# Altium footprint library WR-NPC2.PcbLib: 28 footprints (part 1 of 2)
Each footprint in its own frame and in the unit in brackets; x right, y up, seen from the top. Pads: shape width x height; smd on the part's side, far side on the other; paste and mask are expansions set on the pad; w line width, h text height; cw(c..) or ccw(c..) is an arc to the next point about the centre after c.
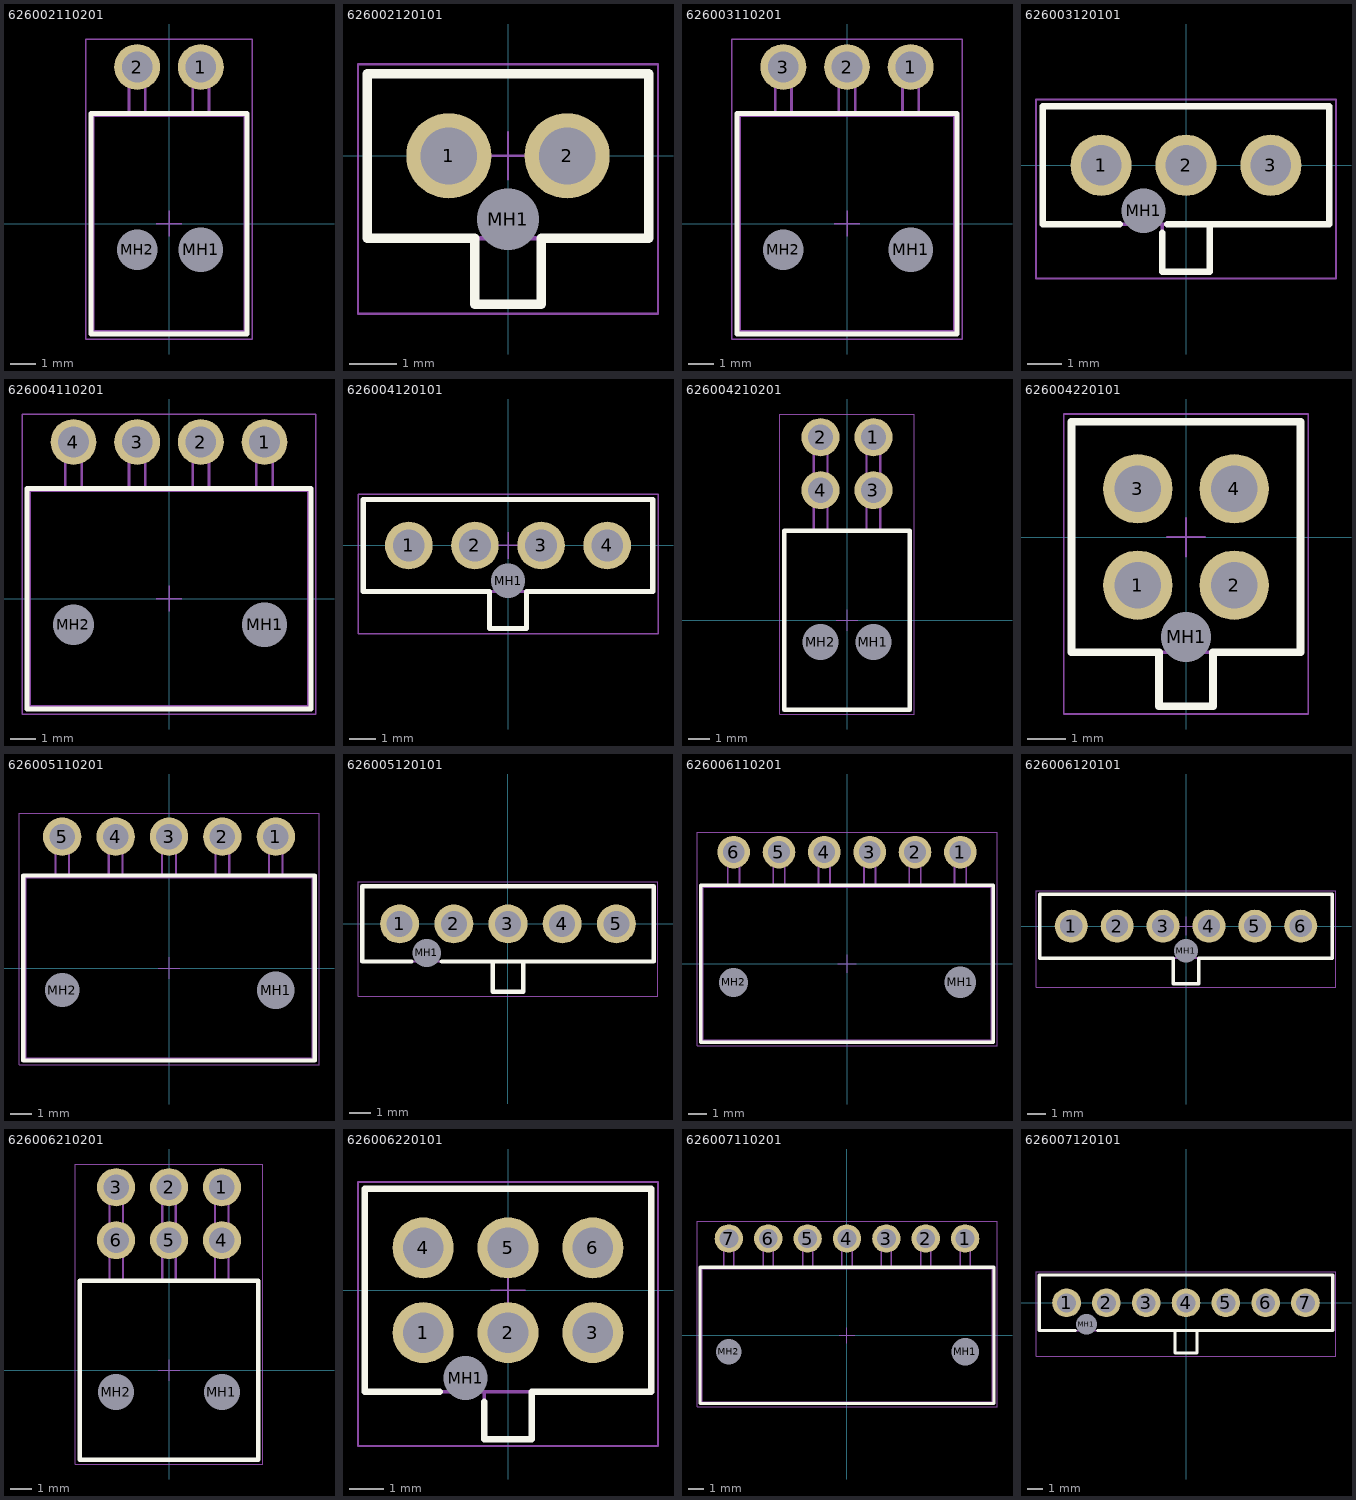
[diagram p0: the footprints below, top view; thin cyan lines are the x and y axes]

## 626002110201 [mm] "Single Row Male Header Right Angled, GW, THT, 02p"
height 3.78
pads (4):
  round 1.8 hole 1.2: 1(1.25,6.15) 2(-1.25,6.15)
  round 1.55 hole 1.75 unplated: MH1(1.25,-1.03)
  round 1.4 hole 1.6 unplated: MH2(-1.25,-1.03)
Top Overlay:
  lines w0.2: -3.07,-4.33 3.07,-4.33 3.07,4.33 -3.07,4.33 -3.07,-4.33
Top Component Outline:
  lines w0.1: -1.57,4.23 -1.57,6.47 -0.93,6.47 -0.93,4.23 ; 0.93,4.23 0.93,6.47 1.57,6.47 1.57,4.23 ; -2.97,-4.23 2.97,-4.23 2.97,4.23 -2.97,4.23 -2.97,-4.23
Top Courtyard:
  lines w0.05: -3.27,-4.53 -3.27,7.25 3.27,7.25 3.27,-4.53 -3.27,-4.53
Top Component Center:
  lines w0.05: -0.5,0 0.5,0 ; 0,-0.5 0,0.5
Top Designator (Mech19):
  text ".Designator" at -7.498,-0.5 h1.5
3D body "626002110201.stp": height 5.24, standoff -3.14, extent -2.94,-4.23 3,6.47

## 626002120101 [mm] "Single Row Male Header Vertical, GW, THT, 02p"
height 9.06
pads (3):
  round 1.8 hole 1.2: 1(-1.25,0) 2(1.25,0)
  round 1.1 hole 1.3 unplated: MH1(0,-1.34)
Top Overlay:
  lines w0.2: -2.97,-1.74 -2.97,1.74 2.97,1.74 2.97,-1.74 0.7,-1.74 0.7,-3.14 -0.7,-3.14 -0.7,-1.74 -2.97,-1.74
Top Component Outline:
  lines w0.1: -0.7,-1.74 -0.7,-3.14 0.7,-3.14 0.7,-1.74 ; -2.97,-1.74 -2.97,1.74 2.97,1.74 2.97,-1.74 -2.97,-1.74
Top Courtyard:
  lines w0.05: -3.17,-3.34 3.17,-3.34 3.17,1.94 -3.17,1.94 -3.17,-3.34
Top Component Center:
  lines w0.05: -0.5,0 0.5,0 ; 0,-0.5 0,0.5
Top Designator (Mech19):
  text ".Designator" at -7.498,-0.5 h1.5
3D body "626002120101.stp": height 9.1, standoff -3.16, extent -2.97,-3.14 2.97,1.74

## 626003110201 [mm] "Single Row Male Header Right Angled, GW, THT, 03p"
height 3.78
pads (5):
  round 1.8 hole 1.2: 1(2.5,6.15) 2(0,6.15) 3(-2.5,6.15)
  round 1.55 hole 1.75 unplated: MH1(2.5,-1.03)
  round 1.4 hole 1.6 unplated: MH2(-2.5,-1.03)
Top Overlay:
  lines w0.2: -4.32,-4.33 -4.32,4.33 4.32,4.33 4.32,-4.33 -4.32,-4.33
Top Component Outline:
  lines w0.1: -2.82,4.23 -2.82,6.47 -2.18,6.47 -2.18,4.23 ; -0.32,4.23 -0.32,6.47 0.32,6.47 0.32,4.23 ; 2.18,4.23 2.18,6.47 2.82,6.47 2.82,4.23 ; -4.22,-4.23 -4.22,4.23 4.22,4.23 4.22,-4.23 -4.22,-4.23
Top Courtyard:
  lines w0.05: -4.52,-4.53 4.52,-4.53 4.52,7.25 -4.52,7.25 -4.52,-4.53
Top Component Center:
  lines w0.05: -0.5,0 0.5,0 ; 0,-0.5 0,0.5
Top Designator (Mech19):
  text ".Designator" at -7.498,-0.5 h1.5
3D body "626003110201.stp": height 5.24, standoff -3.14, extent -4.22,-4.23 4.22,6.47

## 626003120101 [mm] "Single Row Male Header Vertical, GW, THT, 03p"
height 9.06
pads (4):
  round 1.8 hole 1.2: 1(-2.5,0) 2(0,0) 3(2.5,0)
  round 1.1 hole 1.3 unplated: MH1(-1.25,-1.34)
Top Overlay:
  lines w0.2: -1.95,-1.74 -4.22,-1.74 -4.22,1.74 4.22,1.74 4.22,-1.74 -0.55,-1.74 ; -0.7,-2 -0.7,-3.14 0.7,-3.14 0.7,-1.74
Top Component Outline:
  lines w0.1: -0.7,-1.74 -0.7,-3.14 0.7,-3.14 0.7,-1.74 ; -4.22,-1.74 4.22,-1.74 4.22,1.74 -4.22,1.74 -4.22,-1.74
Top Courtyard:
  lines w0.05: -4.42,-3.34 -4.42,1.94 4.42,1.94 4.42,-3.34 -4.42,-3.34
Top Component Center:
  lines w0.05: -0.5,0 0.5,0 ; 0,-0.5 0,0.5
Top Designator (Mech19):
  text ".Designator" at -7.498,-0.5 h1.5
3D body "626003120101.stp": height 9.1, standoff -3.16, extent -4.22,-3.14 4.22,1.74

## 626004110201 [mm] "Single Row Male Header Right Angled, GW, THT, 04p"
height 3.78
pads (6):
  round 1.8 hole 1.2: 1(3.75,6.15) 2(1.25,6.15) 3(-1.25,6.15) 4(-3.75,6.15)
  round 1.55 hole 1.75 unplated: MH1(3.75,-1.03)
  round 1.4 hole 1.6 unplated: MH2(-3.75,-1.03)
Top Overlay:
  lines w0.2: -5.57,-4.33 -5.57,4.33 5.57,4.33 5.57,-4.33 -5.57,-4.33
Top Component Outline:
  lines w0.1: -4.07,4.23 -4.07,6.47 -3.43,6.47 -3.43,4.23 ; -1.57,4.23 -1.57,6.47 -0.93,6.47 -0.93,4.23 ; 0.93,4.23 0.93,6.47 1.57,6.47 1.57,4.23 ; 3.43,4.23 3.43,6.47 4.07,6.47 4.07,4.23 ; -5.47,-4.23 5.47,-4.23 5.47,4.23 -5.47,4.23 -5.47,-4.23
Top Courtyard:
  lines w0.05: -5.77,-4.53 5.77,-4.53 5.77,7.25 -5.77,7.25 -5.77,-4.53
Top Component Center:
  lines w0.05: -0.5,0 0.5,0 ; 0,-0.5 0,0.5
Top Designator (Mech19):
  text ".Designator" at -7.498,-0.5 h1.5
3D body "626004110201.stp": height 5.24, standoff -3.14, extent -5.47,-4.23 5.47,6.47

## 626004120101 [mm] "Single Row Male Header Vertical, GW, THT, 04p"
height 9.06
pads (5):
  round 1.8 hole 1.2: 1(-3.75,0) 2(-1.25,0) 3(1.25,0) 4(3.75,0)
  round 1.1 hole 1.3 unplated: MH1(0,-1.34)
Top Overlay:
  lines w0.2: -5.47,-1.74 -5.47,1.74 5.47,1.74 5.47,-1.74 0.7,-1.74 0.7,-3.14 -0.7,-3.14 -0.7,-1.74 -5.47,-1.74
Top Component Outline:
  lines w0.1: -0.7,-1.74 -0.7,-3.14 0.7,-3.14 0.7,-1.74 ; -5.47,-1.74 5.47,-1.74 5.47,1.74 -5.47,1.74 -5.47,-1.74
Top Courtyard:
  lines w0.05: -5.67,-3.34 -5.67,1.94 5.67,1.94 5.67,-3.34 -5.67,-3.34
Top Component Center:
  lines w0.05: -0.5,0 0.5,0 ; 0,-0.5 0,0.5
Top Designator (Mech19):
  text ".Designator" at -7.498,-0.5 h1.5
3D body "626004120101.stp": height 9.1, standoff -3.16, extent -5.47,-3.14 5.47,1.74

## 626004210201 [mm] "Dual Row Male Header Right Angled, GW, THT, 04p"
height 6.28
pads (6):
  round 1.8 hole 1.2: 1(1.25,8.65) 2(-1.25,8.65) 3(1.25,6.15) 4(-1.25,6.15)
  round 1.5 hole 1.7 unplated: MH1(1.25,-1.03) MH2(-1.25,-1.03)
Top Overlay:
  lines w0.2: -2.97,-4.23 -2.97,4.23 2.97,4.23 2.97,-4.23 -2.97,-4.23
Top Component Outline:
  lines w0.1: -1.57,4.23 -1.57,8.97 -0.93,8.97 -0.93,4.23 ; -1.57,6.47 -0.93,6.47 ; 0.93,4.23 0.93,8.97 1.57,8.97 1.57,4.23 ; 0.93,6.47 1.57,6.47 ; -2.97,-4.23 2.97,-4.23 2.97,4.23 -2.97,4.23 -2.97,-4.23
Top Courtyard:
  lines w0.05: -3.17,-4.43 3.17,-4.43 3.17,9.75 -3.17,9.75 -3.17,-4.43
Top Component Center:
  lines w0.05: -0.5,0 0.5,0 ; 0,-0.5 0,0.5
Top Designator (Mech19):
  text ".Designator" at -7.498,-0.5 h1.5
3D body "626004210201.stp": height 7.79, standoff -3.09, extent -2.97,-4.23 2.97,8.97

## 626004220101 [mm] "Dual Row Male Header Vertical, GW, THT, 04p"
height 9.06
pads (5):
  round 1.8 hole 1.2: 1(-1.25,-1.25) 2(1.25,-1.25) 3(-1.25,1.25) 4(1.25,1.25)
  round 1.1 hole 1.3 unplated: MH1(0,-2.59)
Top Overlay:
  lines w0.2: -2.97,-2.99 -0.7,-2.99 -0.7,-4.39 0.7,-4.39 0.7,-2.99 2.97,-2.99 2.97,2.99 -2.97,2.99 -2.97,-2.99
Top Component Outline:
  lines w0.1: -0.7,-2.99 -0.7,-4.39 0.7,-4.39 0.7,-2.99 ; -2.97,-2.99 2.97,-2.99 2.97,2.99 -2.97,2.99 -2.97,-2.99
Top Courtyard:
  lines w0.05: -3.17,-4.59 -3.17,3.19 3.17,3.19 3.17,-4.59 -3.17,-4.59
Top Component Center:
  lines w0.05: -0.5,0 0.5,0 ; 0,-0.5 0,0.5
Top Designator (Mech19):
  text ".Designator" at -7.498,-0.5 h1.5
3D body "626004220101.stp": height 9.11, standoff -3.15, extent -2.97,-4.39 2.97,2.99

## 626005110201 [mm] "Single Row Male Header Right Angled, GW, THT, 05p"
height 3.78
pads (7):
  round 1.8 hole 1.2: 1(5,6.15) 2(2.5,6.15) 3(0,6.15) 4(-2.5,6.15) 5(-5,6.15)
  round 1.55 hole 1.75 unplated: MH1(5,-1.03)
  round 1.4 hole 1.6 unplated: MH2(-5,-1.03)
Top Overlay:
  lines w0.2: -6.82,-4.33 6.82,-4.33 6.82,4.33 -6.82,4.33 -6.82,-4.33
Top Component Outline:
  lines w0.1: -5.32,4.23 -5.32,6.47 -4.68,6.47 -4.68,4.23 ; -2.82,4.23 -2.82,6.47 -2.18,6.47 -2.18,4.23 ; -0.32,4.23 -0.32,6.47 0.32,6.47 0.32,4.23 ; 2.18,4.23 2.18,6.47 2.82,6.47 2.82,4.23 ; 4.68,4.23 4.68,6.47 5.32,6.47 5.32,4.23 ; -6.72,-4.23 -6.72,4.23 6.72,4.23 6.72,-4.23 -6.72,-4.23
Top Courtyard:
  lines w0.05: -7.02,-4.53 -7.02,7.25 7.02,7.25 7.02,-4.53 -7.02,-4.53
Top Component Center:
  lines w0.05: -0.5,0 0.5,0 ; 0,-0.5 0,0.5
Top Designator (Mech19):
  text ".Designator" at -7.498,-0.5 h1.5
3D body "626005110201.stp": height 5.24, standoff -3.14, extent -6.72,-4.23 6.72,6.47

## 626005120101 [mm] "Single Row Male Header Vertical, GW, THT, 05p"
height 9.06
pads (6):
  round 1.8 hole 1.2: 1(-5,0) 2(-2.5,0) 3(0,0) 4(2.5,0) 5(5,0)
  round 1.1 hole 1.3 unplated: MH1(-3.75,-1.34)
Top Overlay:
  lines w0.2: -4.45,-1.74 -6.72,-1.74 -6.72,1.74 6.72,1.74 6.72,-1.74 -3.05,-1.74 ; -0.7,-1.74 -0.7,-3.14 0.7,-3.14 0.7,-1.74
Top Component Outline:
  lines w0.1: -0.7,-1.74 -0.7,-3.14 0.7,-3.14 0.7,-1.74 ; -6.72,-1.74 6.72,-1.74 6.72,1.74 -6.72,1.74 -6.72,-1.74
Top Courtyard:
  lines w0.05: -6.92,-3.34 -6.92,1.94 6.92,1.94 6.92,-3.34 -6.92,-3.34
Top Component Center:
  lines w0.05: -0.5,0 0.5,0 ; 0,-0.5 0,0.5
Top Designator (Mech19):
  text ".Designator" at -7.498,-0.5 h1.5
3D body "626005120101.stp": height 9.1, standoff -3.16, extent -6.72,-3.14 6.72,1.74

## 626006110201 [mm] "Single Row Male Header Right Angled, GW, THT, 06p"
height 3.78
pads (8):
  round 1.8 hole 1.2: 1(6.25,6.15) 2(3.75,6.15) 3(1.25,6.15) 4(-1.25,6.15) 5(-3.75,6.15) 6(-6.25,6.15)
  round 1.55 hole 1.75 unplated: MH1(6.25,-1.03)
  round 1.4 hole 1.6 unplated: MH2(-6.25,-1.03)
Top Overlay:
  lines w0.2: -8.07,-4.33 -8.07,4.33 8.07,4.33 8.07,-4.33 -8.07,-4.33
Top Component Outline:
  lines w0.1: -6.57,4.23 -6.57,6.47 -5.93,6.47 -5.93,4.23 ; -4.07,4.23 -4.07,6.47 -3.43,6.47 -3.43,4.23 ; -1.57,4.23 -1.57,6.47 -0.93,6.47 -0.93,4.23 ; 0.93,4.23 0.93,6.47 1.57,6.47 1.57,4.23 ; 3.43,4.23 3.43,6.47 4.07,6.47 4.07,4.23 ; 5.93,4.23 5.93,6.47 6.57,6.47 6.57,4.23 ; -7.97,-4.23 7.97,-4.23 7.97,4.23 -7.97,4.23 -7.97,-4.23
Top Courtyard:
  lines w0.05: -8.27,-4.53 8.27,-4.53 8.27,7.25 -8.27,7.25 -8.27,-4.53
Top Component Center:
  lines w0.05: -0.5,0 0.5,0 ; 0,-0.5 0,0.5
Top Designator (Mech19):
  text ".Designator" at -7.498,-0.5 h1.5
3D body "626006110201.stp": height 5.24, standoff -3.14, extent -7.97,-4.23 7.97,6.47

## 626006120101 [mm] "Single Row Male Header Vertical, GW, THT, 06p"
height 9.06
pads (7):
  round 1.8 hole 1.2: 1(-6.25,0) 2(-3.75,0) 3(-1.25,0) 4(1.25,0) 5(3.75,0) 6(6.25,0)
  round 1.1 hole 1.3 unplated: MH1(0,-1.34)
Top Overlay:
  lines w0.2: -7.97,-1.74 -7.97,1.74 7.97,1.74 7.97,-1.74 0.7,-1.74 0.7,-3.14 -0.7,-3.14 -0.7,-1.74 -7.97,-1.74
Top Component Outline:
  lines w0.1: -0.7,-1.74 -0.7,-3.14 0.7,-3.14 0.7,-1.74 ; -7.97,-1.74 -7.97,1.74 7.97,1.74 7.97,-1.74 -7.97,-1.74
Top Courtyard:
  lines w0.05: -8.17,-3.34 8.17,-3.34 8.17,1.94 -8.17,1.94 -8.17,-3.34
Top Component Center:
  lines w0.05: -0.5,0 0.5,0 ; 0,-0.5 0,0.5
Top Designator (Mech19):
  text ".Designator" at -7.498,-0.5 h1.5
3D body "626006120101.stp": height 9.1, standoff -3.16, extent -7.97,-3.14 7.97,1.74

## 626006210201 [mm] "Dual Row Male Header Right Angled, GW, THT, 06p"
height 6.28
pads (8):
  round 1.8 hole 1.2: 1(2.5,8.65) 2(0,8.65) 3(-2.5,8.65) 4(2.5,6.15) 5(0,6.15) 6(-2.5,6.15)
  round 1.5 hole 1.7 unplated: MH1(2.5,-1.03) MH2(-2.5,-1.03)
Top Overlay:
  lines w0.2: -4.22,-4.23 4.22,-4.23 4.22,4.23 -4.22,4.23 -4.22,-4.23
Top Component Outline:
  lines w0.1: -2.82,4.23 -2.82,8.97 -2.18,8.97 -2.18,4.23 ; -2.82,6.47 -2.18,6.47 ; -0.32,4.23 -0.32,8.97 0.32,8.97 0.32,4.23 ; -0.32,6.47 0.32,6.47 ; 2.18,4.23 2.18,8.97 2.82,8.97 2.82,4.23 ; 2.18,6.47 2.82,6.47 ; -4.22,-4.23 -4.22,4.23 4.22,4.23 4.22,-4.23 -4.22,-4.23
Top Courtyard:
  lines w0.05: -4.42,-4.43 -4.42,9.75 4.42,9.75 4.42,-4.43 -4.42,-4.43
Top Component Center:
  lines w0.05: -0.5,0 0.5,0 ; 0,-0.5 0,0.5
Top Designator (Mech19):
  text ".Designator" at -7.498,-0.5 h1.5
3D body "626006210201.stp": height 7.79, standoff -3.09, extent -4.22,-4.23 4.22,8.982

## 626006220101 [mm] "Dual Row Male Header Vertical, GW, THT, 06p"
height 9.06
pads (7):
  round 1.8 hole 1.2: 1(-2.5,-1.25) 2(0,-1.25) 3(2.5,-1.25) 4(-2.5,1.25) 5(0,1.25) 6(2.5,1.25)
  round 1.1 hole 1.3 unplated: MH1(-1.25,-2.59)
Top Overlay:
  lines w0.2: -2.02,-2.99 -4.22,-2.99 -4.22,2.99 4.22,2.99 4.22,-2.99 0.7,-2.99 0.7,-4.39 -0.7,-4.39 -0.7,-3.29
Top Component Outline:
  lines w0.1: -0.7,-2.99 -0.7,-4.39 0.7,-4.39 0.7,-2.99 ; -4.22,-2.99 -4.22,2.99 4.22,2.99 4.22,-2.99 -4.22,-2.99
Top Courtyard:
  lines w0.05: -4.42,-4.59 4.42,-4.59 4.42,3.19 -4.42,3.19 -4.42,-4.59
Top Component Center:
  lines w0.05: -0.5,0 0.5,0 ; 0,-0.5 0,0.5
Top Designator (Mech19):
  text ".Designator" at -7.498,-0.5 h1.5
3D body "626006220101.stp": height 9.11, standoff -3.15, extent -4.22,-4.39 4.22,2.99

## 626007110201 [mm] "Single Row Male Header Right Angled, GW, THT, 07p"
height 3.78
pads (9):
  round 1.8 hole 1.2: 1(7.5,6.15) 2(5,6.15) 3(2.5,6.15) 4(0,6.15) 5(-2.5,6.15) 6(-5,6.15) 7(-7.5,6.15)
  round 1.55 hole 1.75 unplated: MH1(7.5,-1.03)
  round 1.4 hole 1.6 unplated: MH2(-7.5,-1.03)
Top Overlay:
  lines w0.2: -9.32,-4.33 -9.32,4.33 9.32,4.33 9.32,-4.33 -9.32,-4.33
Top Component Outline:
  lines w0.1: -7.82,4.23 -7.82,6.47 -7.18,6.47 -7.18,4.23 ; -5.32,4.23 -5.32,6.47 -4.68,6.47 -4.68,4.23 ; -2.82,4.23 -2.82,6.47 -2.18,6.47 -2.18,4.23 ; -0.32,4.23 -0.32,6.47 0.32,6.47 0.32,4.23 ; 2.18,4.23 2.18,6.47 2.82,6.47 2.82,4.23 ; 4.68,4.23 4.68,6.47 5.32,6.47 5.32,4.23 ; 7.18,4.23 7.18,6.47 7.82,6.47 7.82,4.23 ; -9.22,-4.23 9.22,-4.23 9.22,4.23 -9.22,4.23 -9.22,-4.23
Top Courtyard:
  lines w0.05: -9.52,-4.53 9.52,-4.53 9.52,7.25 -9.52,7.25 -9.52,-4.53
Top Component Center:
  lines w0.05: -0.5,0 0.5,0 ; 0,-0.5 0,0.5
Top Designator (Mech19):
  text ".Designator" at -7.498,-0.5 h1.5
3D body "626007110201.stp": height 5.24, standoff -3.14, extent -9.22,-4.23 9.22,6.47

## 626007120101 [mm] "Single Row Male Header Vertical, GW, THT, 07p"
height 9.06
pads (8):
  round 1.8 hole 1.2: 1(-7.5,0) 2(-5,0) 3(-2.5,0) 4(0,0) 5(2.5,0) 6(5,0) 7(7.5,0)
  round 1.1 hole 1.3 unplated: MH1(-6.25,-1.34)
Top Overlay:
  lines w0.2: -6.95,-1.74 -9.22,-1.74 -9.22,1.74 9.22,1.74 9.22,-1.74 -5.55,-1.74 ; -0.7,-1.74 -0.7,-3.14 0.7,-3.14 0.7,-1.74
Top Component Outline:
  lines w0.1: -0.7,-1.74 -0.7,-3.14 0.7,-3.14 0.7,-1.74 ; -9.22,-1.74 -9.22,1.74 9.22,1.74 9.22,-1.74 -9.22,-1.74
Top Courtyard:
  lines w0.05: -9.42,-3.34 9.42,-3.34 9.42,1.94 -9.42,1.94 -9.42,-3.34
Top Component Center:
  lines w0.05: -0.5,0 0.5,0 ; 0,-0.5 0,0.5
Top Designator (Mech19):
  text ".Designator" at -7.498,-0.5 h1.5
3D body "626007120101.stp": height 9.1, standoff -3.16, extent -9.22,-3.14 9.22,1.74